# Altium schematic symbol library relay_spst.Schlib: 1 symbol
Pins are listed as number, name and electrical type; pins without a type are passive.

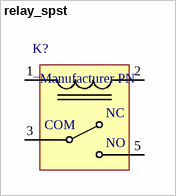
[diagram p0: symbol relay_spst]

## relay_spst
designator K?
SPST Relay
pins: 1, 2, 3 COM, 5 NO
text: NC